# Altium schematic symbol library LED Driver.SchLib: 3 symbols
Pins are listed as number, name and electrical type; pins without a type are passive.

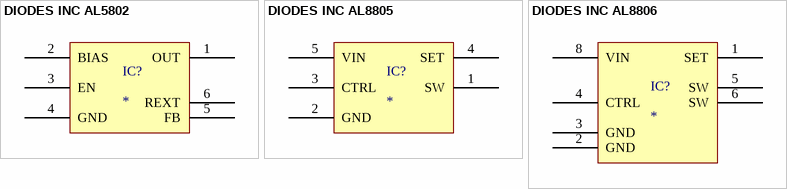
[diagram p0: symbols DIODES INC AL5802 to DIODES INC AL8806]

## DIODES INC AL5802
designator IC?
pins: 1 OUT, 2 BIAS, 3 EN, 4 GND, 5 FB, 6 REXT

## DIODES INC AL8805
designator IC?
pins: 1 SW, 2 GND, 3 CTRL, 4 SET, 5 VIN

## DIODES INC AL8806
designator IC?
pins: 1 SET, 2 GND, 3 GND, 4 CTRL, 5 SW, 6 SW, 8 VIN